# Altium integrated library TI_Logic_Gate.IntLib: 2017 symbols (part 15 of 56)
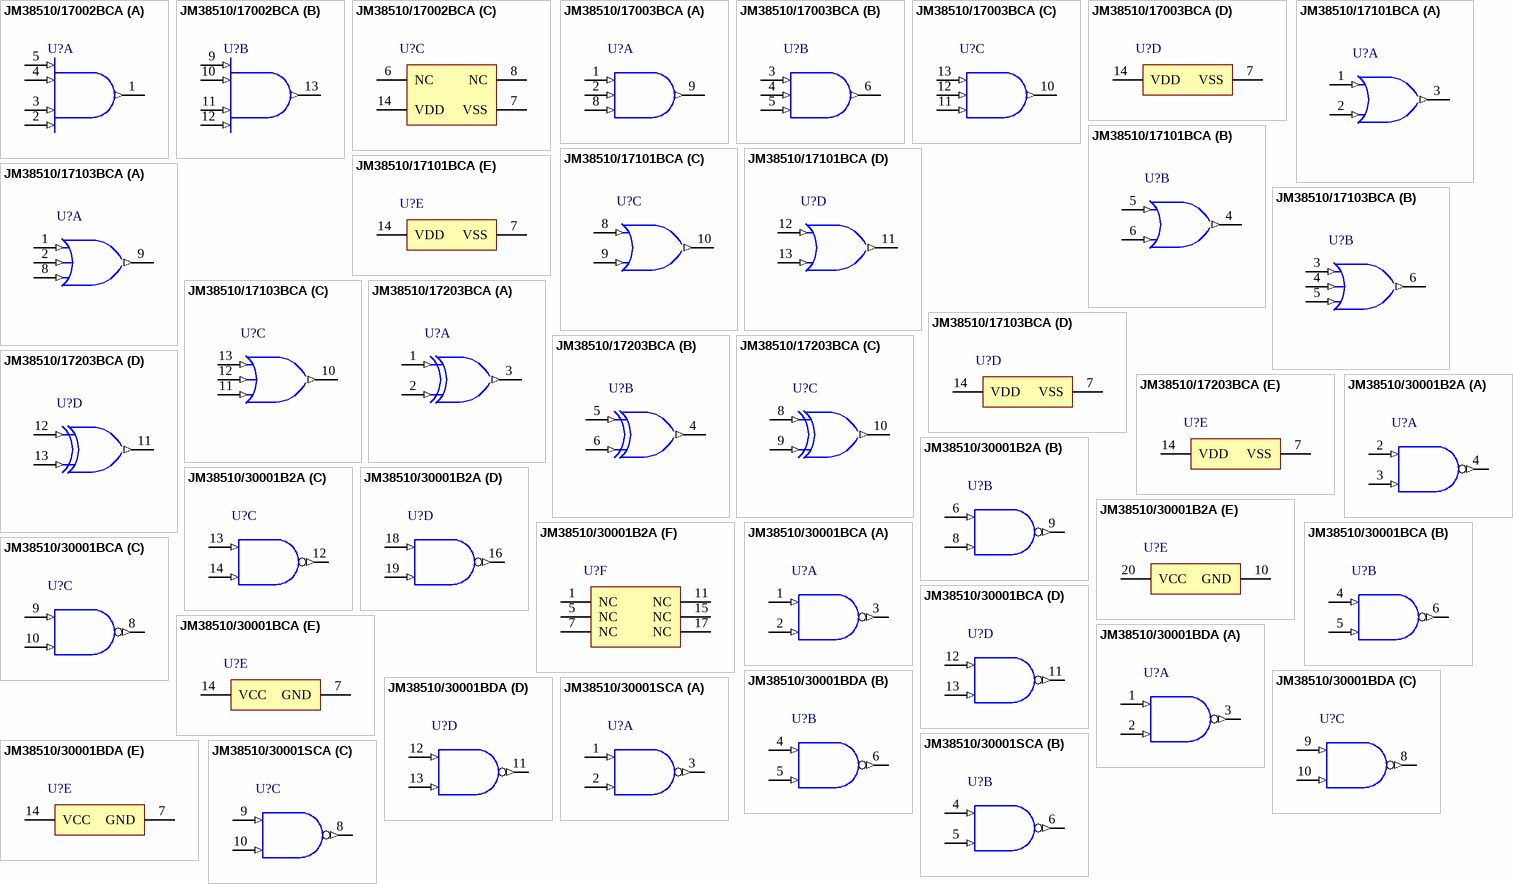
[diagram p239: symbols JM38510/17002BCA to JM38510/30001SCA]

## JM38510/30001BDA
designator U?
Quadruple 2-Input Positive-NAND Gates, W0014A, TUBE; Generic Part Number: SN54LS00; Manufacturer: Texas Instruments; PartNumber: JM38510/30001BDA; VCC(Min)(V): 4.5; VCC(Max)(V): 5.5; Output Type: TTL; Rating: Military; Technology Family: LS; Schmitt Trigger: No; DatasheetVersion: SDLS025B; PackageReference: W0014A; Input Type: TTL; Operating Temperature Range(C): -55 to 125; ComponentLink1Description: Manufacturer URL; ComponentLink1URL: http://www.ti.com/; ComponentLink2Description: Datasheet; ComponentLink2URL: http://www.ti.com/lit/ds/symlink/sn54ls00.pdf; ComponentLink3Description: Package Specification; ComponentLink3URL: http://www.ti.com/lit/ml/mcfp002c/mcfp002c.pdf
footprint W0014A_N (CFP, 14-Leads, Body 9.91x6.6mm, Pitch 1.27mm, IPC Medium Density)
footprint W0014A_M (CFP, 14-Leads, Body 9.91x6.6mm, Pitch 1.27mm, IPC Low Density)
footprint W0014A_L (CFP, 14-Leads, Body 9.91x6.6mm, Pitch 1.27mm, IPC High Density)
part A pins: 1 1A (in) "Gate 1 input", 2 1B (in) "Gate 1 input", 3 1Y (out) "Gate 1 output"
part B pins: 4 2A (in) "Gate 2 input", 5 2B (in) "Gate 2 input", 6 2Y (out) "Gate 2 output"
part C pins: 8 3Y (out) "Gate 3 output", 9 3A (in) "Gate 3 input", 10 3B (in) "Gate 3 input"
part D pins: 11 4Y (out) "Gate 4 output", 12 4A (in) "Gate 4 input", 13 4B (in) "Gate 4 input"
part E pins: 7 GND (power) "Ground Pin", 14 VCC (power) "Power Pin"

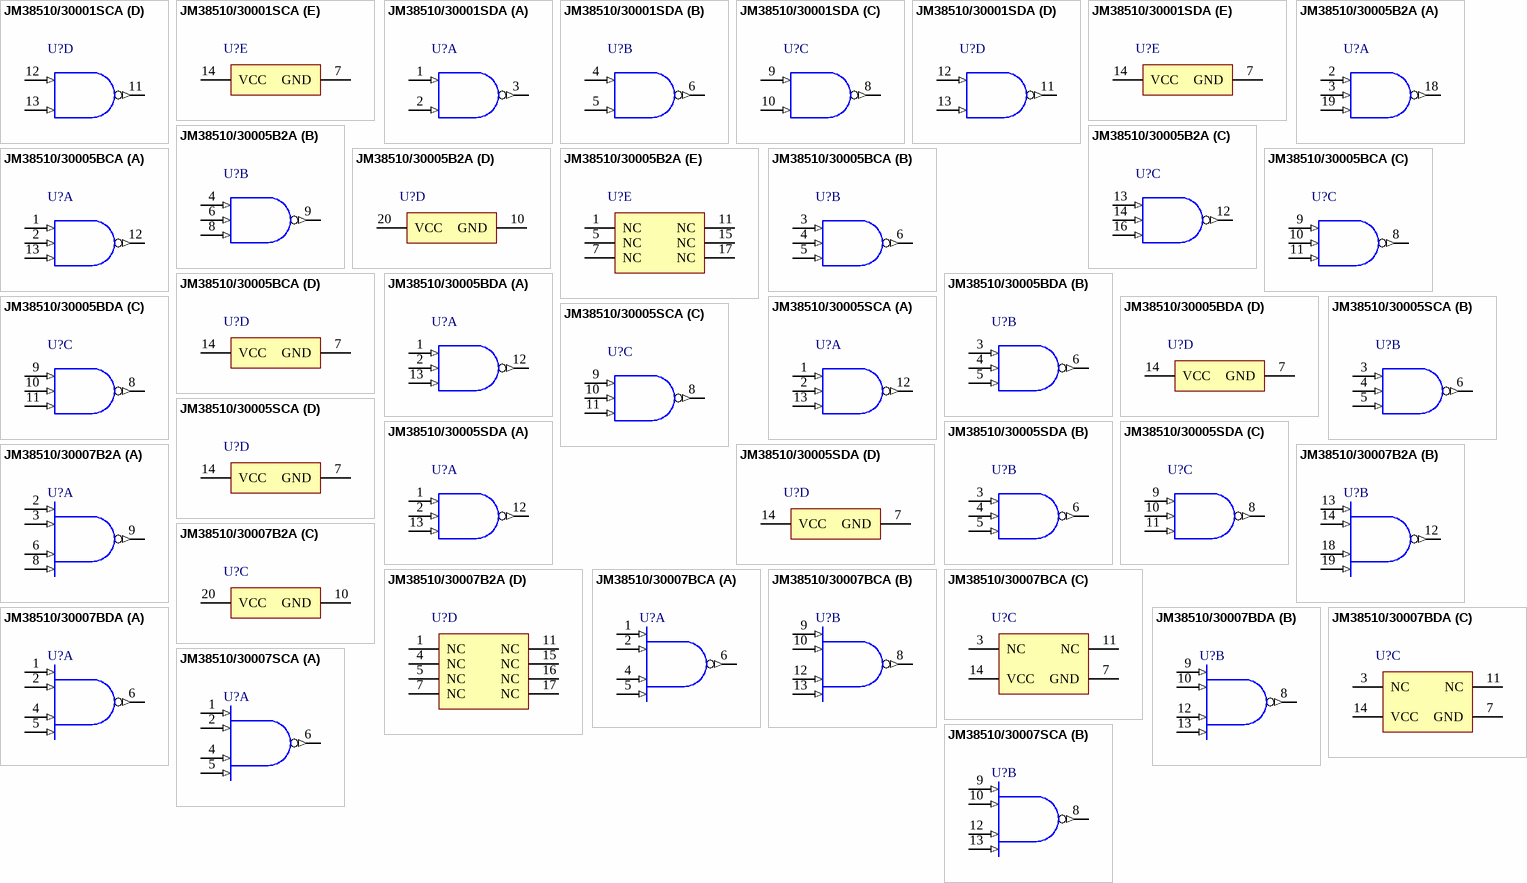
[diagram p55: symbols JM38510/30001SCA to JM38510/30007SCA]

## JM38510/30001SCA
designator U?
Quadruple 2-Input Positive-NAND Gates, J0014A, TUBE; Generic Part Number: SN54LS00-SP; Manufacturer: Texas Instruments; PartNumber: JM38510/30001SCA; VCC(Min)(V): 4.5; VCC(Max)(V): 5.5; Output Type: TTL; Rating: Space; Technology Family: LS; Schmitt Trigger: No; DatasheetVersion: SDLS025B; PackageReference: J0014A; Input Type: TTL; Operating Temperature Range(C): -55 to 125; ComponentLink1Description: Manufacturer URL; ComponentLink1URL: http://www.ti.com/; ComponentLink2Description: Datasheet; ComponentLink2URL: http://www.ti.com/lit/ds/symlink/sn54ls00-sp.pdf; ComponentLink3Description: Package Specification; ComponentLink3URL: http://www.ti.com/lit/ml/mcer002d/mcer002d.pdf
footprint J0014A (DIP, 14-Leads, Body 19.95x7.2mm, Pitch 2.54mm)
part A pins: 1 1A (in) "Gate 1 input", 2 1B (in) "Gate 1 input", 3 1Y (out) "Gate 1 output"
part B pins: 4 2A (in) "Gate 2 input", 5 2B (in) "Gate 2 input", 6 2Y (out) "Gate 2 output"
part C pins: 8 3Y (out) "Gate 3 output", 9 3A (in) "Gate 3 input", 10 3B (in) "Gate 3 input"
part D pins: 11 4Y (out) "Gate 4 output", 12 4A (in) "Gate 4 input", 13 4B (in) "Gate 4 input"
part E pins: 7 GND (power) "Ground Pin", 14 VCC (power) "Power Pin"

## JM38510/30001SDA
designator U?
Quadruple 2-Input Positive-NAND Gates, W0014A, TUBE; Generic Part Number: SN54LS00-SP; Manufacturer: Texas Instruments; PartNumber: JM38510/30001SDA; VCC(Min)(V): 4.5; VCC(Max)(V): 5.5; Output Type: TTL; Rating: Space; Technology Family: LS; Schmitt Trigger: No; DatasheetVersion: SDLS025B; PackageReference: W0014A; Input Type: TTL; Operating Temperature Range(C): -55 to 125; ComponentLink1Description: Manufacturer URL; ComponentLink1URL: http://www.ti.com/; ComponentLink2Description: Datasheet; ComponentLink2URL: http://www.ti.com/lit/ds/symlink/sn54ls00-sp.pdf; ComponentLink3Description: Package Specification; ComponentLink3URL: http://www.ti.com/lit/ml/mcfp002c/mcfp002c.pdf
footprint W0014A_N (CFP, 14-Leads, Body 9.91x6.6mm, Pitch 1.27mm, IPC Medium Density)
footprint W0014A_M (CFP, 14-Leads, Body 9.91x6.6mm, Pitch 1.27mm, IPC Low Density)
footprint W0014A_L (CFP, 14-Leads, Body 9.91x6.6mm, Pitch 1.27mm, IPC High Density)
part A pins: 1 1A (in) "Gate 1 input", 2 1B (in) "Gate 1 input", 3 1Y (out) "Gate 1 output"
part B pins: 4 2A (in) "Gate 2 input", 5 2B (in) "Gate 2 input", 6 2Y (out) "Gate 2 output"
part C pins: 8 3Y (out) "Gate 3 output", 9 3A (in) "Gate 3 input", 10 3B (in) "Gate 3 input"
part D pins: 11 4Y (out) "Gate 4 output", 12 4A (in) "Gate 4 input", 13 4B (in) "Gate 4 input"
part E pins: 7 GND (power) "Ground Pin", 14 VCC (power) "Power Pin"

## JM38510/30005B2A
designator U?
Triple 3-Input Positive-NAND Gates, FK0020A, TUBE; Generic Part Number: SN54LS10; Manufacturer: Texas Instruments; PartNumber: JM38510/30005B2A; VCC(Min)(V): 4.5; VCC(Max)(V): 5.5; Output Type: TTL; Rating: Military; Technology Family: LS; Schmitt Trigger: No; DatasheetVersion: SDLS035A; PackageReference: FK0020A; Input Type: TTL; Operating Temperature Range(C): -55 to 125; Code_JEDEC: MS-004; ComponentLink1Description: Manufacturer URL; ComponentLink1URL: http://www.ti.com/; ComponentLink2Description: Datasheet; ComponentLink2URL: http://www.ti.com/lit/ds/symlink/sn54ls10.pdf; ComponentLink3Description: Package Specification; ComponentLink3URL: http://www.ti.com/lit/ml/mlcc006d/mlcc006d.pdf
footprint FK0020A_N (LCC, 20-Leads, Body 8.9x8.9mm, Pitch 1.27mm, IPC Medium Density)
footprint FK0020A_M (LCC, 20-Leads, Body 8.9x8.9mm, Pitch 1.27mm, IPC Low Density)
footprint FK0020A_L (LCC, 20-Leads, Body 8.9x8.9mm, Pitch 1.27mm, IPC High Density)
part A pins: 2 1A (in), 3 1B (in), 18 1Y (out), 19 1C (in)
part B pins: 4 2A (in), 6 2B (in), 8 2C (in), 9 2Y (out)
part C pins: 12 3Y (out), 13 3A (in), 14 3B (in), 16 3C (in)
part D pins: 10 GND (power), 20 VCC (power)
part E pins: 1 NC, 5 NC, 7 NC, 11 NC, 15 NC, 17 NC

## JM38510/30005BCA
designator U?
Triple 3-Input Positive-NAND Gates, J0014A, TUBE; Generic Part Number: SN54LS10; Manufacturer: Texas Instruments; PartNumber: JM38510/30005BCA; VCC(Min)(V): 4.5; VCC(Max)(V): 5.5; Output Type: TTL; Rating: Military; Technology Family: LS; Schmitt Trigger: No; DatasheetVersion: SDLS035A; PackageReference: J0014A; Input Type: TTL; Operating Temperature Range(C): -55 to 125; ComponentLink1Description: Manufacturer URL; ComponentLink1URL: http://www.ti.com/; ComponentLink2Description: Datasheet; ComponentLink2URL: http://www.ti.com/lit/ds/symlink/sn54ls10.pdf; ComponentLink3Description: Package Specification; ComponentLink3URL: http://www.ti.com/lit/ml/mcer002d/mcer002d.pdf
footprint J0014A (DIP, 14-Leads, Body 19.95x7.2mm, Pitch 2.54mm)
part A pins: 1 1A (in), 2 1B (in), 12 1Y (out), 13 1C (in)
part B pins: 3 2A (in), 4 2B (in), 5 2C (in), 6 2Y (out)
part C pins: 8 3Y (out), 9 3A (in), 10 3B (in), 11 3C (in)
part D pins: 7 GND (power), 14 VCC (power)

## JM38510/30005BDA
designator U?
Triple 3-Input Positive-NAND Gates, W0014A, TUBE; Generic Part Number: SN54LS10; Manufacturer: Texas Instruments; PartNumber: JM38510/30005BDA; VCC(Min)(V): 4.5; VCC(Max)(V): 5.5; Output Type: TTL; Rating: Military; Technology Family: LS; Schmitt Trigger: No; DatasheetVersion: SDLS035A; PackageReference: W0014A; Input Type: TTL; Operating Temperature Range(C): -55 to 125; ComponentLink1Description: Manufacturer URL; ComponentLink1URL: http://www.ti.com/; ComponentLink2Description: Datasheet; ComponentLink2URL: http://www.ti.com/lit/ds/symlink/sn54ls10.pdf; ComponentLink3Description: Package Specification; ComponentLink3URL: http://www.ti.com/lit/ml/mcfp002c/mcfp002c.pdf
footprint W0014A_N (CFP, 14-Leads, Body 9.91x6.6mm, Pitch 1.27mm, IPC Medium Density)
footprint W0014A_M (CFP, 14-Leads, Body 9.91x6.6mm, Pitch 1.27mm, IPC Low Density)
footprint W0014A_L (CFP, 14-Leads, Body 9.91x6.6mm, Pitch 1.27mm, IPC High Density)
part A pins: 1 1A (in), 2 1B (in), 12 1Y (out), 13 1C (in)
part B pins: 3 2A (in), 4 2B (in), 5 2C (in), 6 2Y (out)
part C pins: 8 3Y (out), 9 3A (in), 10 3B (in), 11 3C (in)
part D pins: 7 GND (power), 14 VCC (power)

## JM38510/30005SCA
designator U?
Triple 3-Input Positive-NAND Gates, J0014A, TUBE; Generic Part Number: SN54LS10-SP; Manufacturer: Texas Instruments; PartNumber: JM38510/30005SCA; VCC(Min)(V): 4.5; VCC(Max)(V): 5.5; Output Type: TTL; Rating: Space; Technology Family: LS; Schmitt Trigger: No; DatasheetVersion: SDLS035A; PackageReference: J0014A; Input Type: TTL; Operating Temperature Range(C): -55 to 125; ComponentLink1Description: Manufacturer URL; ComponentLink1URL: http://www.ti.com/; ComponentLink2Description: Datasheet; ComponentLink2URL: http://www.ti.com/lit/ds/symlink/sn54ls10-sp.pdf; ComponentLink3Description: Package Specification; ComponentLink3URL: http://www.ti.com/lit/ml/mcer002d/mcer002d.pdf
footprint J0014A (DIP, 14-Leads, Body 19.95x7.2mm, Pitch 2.54mm)
part A pins: 1 1A (in), 2 1B (in), 12 1Y (out), 13 1C (in)
part B pins: 3 2A (in), 4 2B (in), 5 2C (in), 6 2Y (out)
part C pins: 8 3Y (out), 9 3A (in), 10 3B (in), 11 3C (in)
part D pins: 7 GND (power), 14 VCC (power)

## JM38510/30005SDA
designator U?
Triple 3-Input Positive-NAND Gates, W0014A, TUBE; Generic Part Number: SN54LS10-SP; Manufacturer: Texas Instruments; PartNumber: JM38510/30005SDA; VCC(Min)(V): 4.5; VCC(Max)(V): 5.5; Output Type: TTL; Rating: Space; Technology Family: LS; Schmitt Trigger: No; DatasheetVersion: SDLS035A; PackageReference: W0014A; Input Type: TTL; Operating Temperature Range(C): -55 to 125; ComponentLink1Description: Manufacturer URL; ComponentLink1URL: http://www.ti.com/; ComponentLink2Description: Datasheet; ComponentLink2URL: http://www.ti.com/lit/ds/symlink/sn54ls10-sp.pdf; ComponentLink3Description: Package Specification; ComponentLink3URL: http://www.ti.com/lit/ml/mcfp002c/mcfp002c.pdf
footprint W0014A_N (CFP, 14-Leads, Body 9.91x6.6mm, Pitch 1.27mm, IPC Medium Density)
footprint W0014A_M (CFP, 14-Leads, Body 9.91x6.6mm, Pitch 1.27mm, IPC Low Density)
footprint W0014A_L (CFP, 14-Leads, Body 9.91x6.6mm, Pitch 1.27mm, IPC High Density)
part A pins: 1 1A (in), 2 1B (in), 12 1Y (out), 13 1C (in)
part B pins: 3 2A (in), 4 2B (in), 5 2C (in), 6 2Y (out)
part C pins: 8 3Y (out), 9 3A (in), 10 3B (in), 11 3C (in)
part D pins: 7 GND (power), 14 VCC (power)

## JM38510/30007B2A
designator U?
Dual 4-Input Positive-NAND Gates, FK0020A, TUBE; Generic Part Number: SN54LS20; Manufacturer: Texas Instruments; PartNumber: JM38510/30007B2A; VCC(Min)(V): 4.5; VCC(Max)(V): 5.5; Output Type: TTL; Rating: Military; Technology Family: LS; Schmitt Trigger: No; DatasheetVersion: SDLS079; PackageReference: FK0020A; Input Type: TTL; Operating Temperature Range(C): -55 to 125; Code_JEDEC: MS-004; ComponentLink1Description: Manufacturer URL; ComponentLink1URL: http://www.ti.com/; ComponentLink2Description: Datasheet; ComponentLink2URL: http://www.ti.com/lit/ds/symlink/sn54ls20.pdf; ComponentLink3Description: Package Specification; ComponentLink3URL: http://www.ti.com/lit/ml/mlcc006d/mlcc006d.pdf
footprint FK0020A_N (LCC, 20-Leads, Body 8.9x8.9mm, Pitch 1.27mm, IPC Medium Density)
footprint FK0020A_M (LCC, 20-Leads, Body 8.9x8.9mm, Pitch 1.27mm, IPC Low Density)
footprint FK0020A_L (LCC, 20-Leads, Body 8.9x8.9mm, Pitch 1.27mm, IPC High Density)
part A pins: 2 1A (in), 3 1B (in), 6 1C (in), 8 1D (in), 9 1Y (out)
part B pins: 12 2Y (out), 13 2A (in), 14 2B (in), 18 2C (in), 19 2D (in)
part C pins: 10 GND (power), 20 VCC (power)
part D pins: 1 NC, 4 NC, 5 NC, 7 NC, 11 NC, 15 NC, 16 NC, 17 NC

## JM38510/30007BCA
designator U?
Dual 4-Input Positive-NAND Gates, J0014A, TUBE; Generic Part Number: SN54LS20; Manufacturer: Texas Instruments; PartNumber: JM38510/30007BCA; VCC(Min)(V): 4.5; VCC(Max)(V): 5.5; Output Type: TTL; Rating: Military; Technology Family: LS; Schmitt Trigger: No; DatasheetVersion: SDLS079; PackageReference: J0014A; Input Type: TTL; Operating Temperature Range(C): -55 to 125; ComponentLink1Description: Manufacturer URL; ComponentLink1URL: http://www.ti.com/; ComponentLink2Description: Datasheet; ComponentLink2URL: http://www.ti.com/lit/ds/symlink/sn54ls20.pdf; ComponentLink3Description: Package Specification; ComponentLink3URL: http://www.ti.com/lit/ml/mcer002d/mcer002d.pdf
footprint J0014A (DIP, 14-Leads, Body 19.95x7.2mm, Pitch 2.54mm)
part A pins: 1 1A (in), 2 1B (in), 4 1C (in), 5 1D (in), 6 1Y (out)
part B pins: 8 2Y (out), 9 2A (in), 10 2B (in), 12 2C (in), 13 2D (in)
part C pins: 3 NC, 7 GND (power), 11 NC, 14 VCC (power)

## JM38510/30007BDA
designator U?
Dual 4-Input Positive-NAND Gates, W0014A, TUBE; Generic Part Number: SN54LS20; Manufacturer: Texas Instruments; PartNumber: JM38510/30007BDA; VCC(Min)(V): 4.5; VCC(Max)(V): 5.5; Output Type: TTL; Rating: Military; Technology Family: LS; Schmitt Trigger: No; DatasheetVersion: SDLS079; PackageReference: W0014A; Input Type: TTL; Operating Temperature Range(C): -55 to 125; ComponentLink1Description: Manufacturer URL; ComponentLink1URL: http://www.ti.com/; ComponentLink2Description: Datasheet; ComponentLink2URL: http://www.ti.com/lit/ds/symlink/sn54ls20.pdf; ComponentLink3Description: Package Specification; ComponentLink3URL: http://www.ti.com/lit/ml/mcfp002c/mcfp002c.pdf
footprint W0014A_N (CFP, 14-Leads, Body 9.91x6.6mm, Pitch 1.27mm, IPC Medium Density)
footprint W0014A_M (CFP, 14-Leads, Body 9.91x6.6mm, Pitch 1.27mm, IPC Low Density)
footprint W0014A_L (CFP, 14-Leads, Body 9.91x6.6mm, Pitch 1.27mm, IPC High Density)
part A pins: 1 1A (in), 2 1B (in), 4 1C (in), 5 1D (in), 6 1Y (out)
part B pins: 8 2Y (out), 9 2A (in), 10 2B (in), 12 2C (in), 13 2D (in)
part C pins: 3 NC, 7 GND (power), 11 NC, 14 VCC (power)

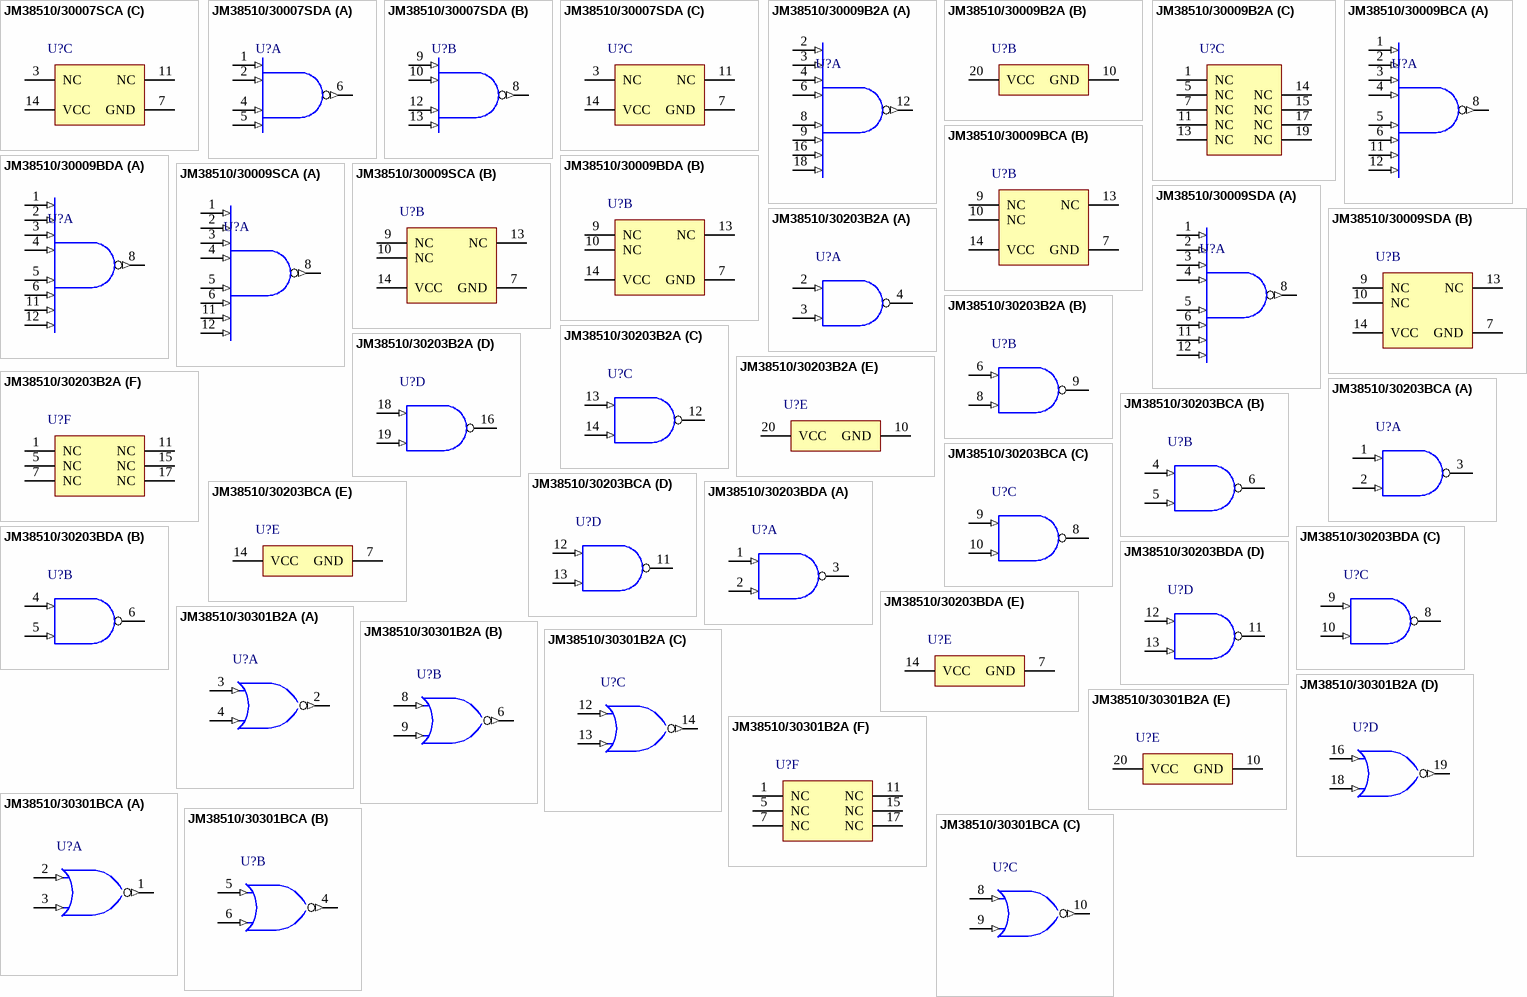
[diagram p56: symbols JM38510/30007SCA to JM38510/30301BCA]

## JM38510/30007SCA
designator U?
Dual 4-Input Positive-NAND Gates, J0014A, TUBE; Generic Part Number: SN54LS20-SP; Manufacturer: Texas Instruments; PartNumber: JM38510/30007SCA; VCC(Min)(V): 4.5; VCC(Max)(V): 5.5; Output Type: TTL; Rating: Space; Technology Family: LS; Schmitt Trigger: No; DatasheetVersion: SDLS079; PackageReference: J0014A; Input Type: TTL; Operating Temperature Range(C): -55 to 125; ComponentLink1Description: Manufacturer URL; ComponentLink1URL: http://www.ti.com/; ComponentLink2Description: Datasheet; ComponentLink2URL: http://www.ti.com/lit/ds/symlink/sn54ls20-sp.pdf; ComponentLink3Description: Package Specification; ComponentLink3URL: http://www.ti.com/lit/ml/mcer002d/mcer002d.pdf
footprint J0014A (DIP, 14-Leads, Body 19.95x7.2mm, Pitch 2.54mm)
part A pins: 1 1A (in), 2 1B (in), 4 1C (in), 5 1D (in), 6 1Y (out)
part B pins: 8 2Y (out), 9 2A (in), 10 2B (in), 12 2C (in), 13 2D (in)
part C pins: 3 NC, 7 GND (power), 11 NC, 14 VCC (power)

## JM38510/30007SDA
designator U?
Dual 4-Input Positive-NAND Gates, W0014A, TUBE; Generic Part Number: SN54LS20-SP; Manufacturer: Texas Instruments; PartNumber: JM38510/30007SDA; VCC(Min)(V): 4.5; VCC(Max)(V): 5.5; Output Type: TTL; Rating: Space; Technology Family: LS; Schmitt Trigger: No; DatasheetVersion: SDLS079; PackageReference: W0014A; Input Type: TTL; Operating Temperature Range(C): -55 to 125; ComponentLink1Description: Manufacturer URL; ComponentLink1URL: http://www.ti.com/; ComponentLink2Description: Datasheet; ComponentLink2URL: http://www.ti.com/lit/ds/symlink/sn54ls20-sp.pdf; ComponentLink3Description: Package Specification; ComponentLink3URL: http://www.ti.com/lit/ml/mcfp002c/mcfp002c.pdf
footprint W0014A_N (CFP, 14-Leads, Body 9.91x6.6mm, Pitch 1.27mm, IPC Medium Density)
footprint W0014A_M (CFP, 14-Leads, Body 9.91x6.6mm, Pitch 1.27mm, IPC Low Density)
footprint W0014A_L (CFP, 14-Leads, Body 9.91x6.6mm, Pitch 1.27mm, IPC High Density)
part A pins: 1 1A (in), 2 1B (in), 4 1C (in), 5 1D (in), 6 1Y (out)
part B pins: 8 2Y (out), 9 2A (in), 10 2B (in), 12 2C (in), 13 2D (in)
part C pins: 3 NC, 7 GND (power), 11 NC, 14 VCC (power)

## JM38510/30009B2A
designator U?
8-Input Positive-NAND Gates, FK0020A, TUBE; Generic Part Number: SN54LS30; Manufacturer: Texas Instruments; PartNumber: JM38510/30009B2A; VCC(Min)(V): 4.5; VCC(Max)(V): 5.5; Output Type: TTL; Rating: Military; Technology Family: LS; Schmitt Trigger: No; DatasheetVersion: SDLS099; PackageReference: FK0020A; Input Type: TTL; Operating Temperature Range(C): -55 to 125; Code_JEDEC: MS-004; ComponentLink1Description: Manufacturer URL; ComponentLink1URL: http://www.ti.com/; ComponentLink2Description: Datasheet; ComponentLink2URL: http://www.ti.com/lit/ds/symlink/sn54ls30.pdf; ComponentLink3Description: Package Specification; ComponentLink3URL: http://www.ti.com/lit/ml/mlcc006d/mlcc006d.pdf
footprint FK0020A_N (LCC, 20-Leads, Body 8.9x8.9mm, Pitch 1.27mm, IPC Medium Density)
footprint FK0020A_M (LCC, 20-Leads, Body 8.9x8.9mm, Pitch 1.27mm, IPC Low Density)
footprint FK0020A_L (LCC, 20-Leads, Body 8.9x8.9mm, Pitch 1.27mm, IPC High Density)
part A pins: 2 A (in), 3 B (in), 4 C (in), 6 D (in), 8 E (in), 9 F (in), 12 Y (out), 16 G (in), 18 H (in)
part B pins: 10 GND (power), 20 VCC (power)
part C pins: 1 NC, 5 NC, 7 NC, 11 NC, 13 NC, 14 NC, 15 NC, 17 NC, 19 NC

## JM38510/30009BCA
designator U?
8-Input Positive-NAND Gates, J0014A, TUBE; Generic Part Number: SN54LS30; Manufacturer: Texas Instruments; PartNumber: JM38510/30009BCA; VCC(Min)(V): 4.5; VCC(Max)(V): 5.5; Output Type: TTL; Rating: Military; Technology Family: LS; Schmitt Trigger: No; DatasheetVersion: SDLS099; PackageReference: J0014A; Input Type: TTL; Operating Temperature Range(C): -55 to 125; ComponentLink1Description: Manufacturer URL; ComponentLink1URL: http://www.ti.com/; ComponentLink2Description: Datasheet; ComponentLink2URL: http://www.ti.com/lit/ds/symlink/sn54ls30.pdf; ComponentLink3Description: Package Specification; ComponentLink3URL: http://www.ti.com/lit/ml/mcer002d/mcer002d.pdf
footprint J0014A (DIP, 14-Leads, Body 19.95x7.2mm, Pitch 2.54mm)
part A pins: 1 A (in), 2 B (in), 3 C (in), 4 D (in), 5 E (in), 6 F (in), 8 ~{Y} (out), 11 G (in), 12 H (in)
part B pins: 7 GND (power), 9 NC, 10 NC, 13 NC, 14 VCC (power)

## JM38510/30009BDA
designator U?
8-Input Positive-NAND Gates, W0014A, TUBE; Generic Part Number: SN54LS30; Manufacturer: Texas Instruments; PartNumber: JM38510/30009BDA; VCC(Min)(V): 4.5; VCC(Max)(V): 5.5; Output Type: TTL; Rating: Military; Technology Family: LS; Schmitt Trigger: No; DatasheetVersion: SDLS099; PackageReference: W0014A; Input Type: TTL; Operating Temperature Range(C): -55 to 125; ComponentLink1Description: Manufacturer URL; ComponentLink1URL: http://www.ti.com/; ComponentLink2Description: Datasheet; ComponentLink2URL: http://www.ti.com/lit/ds/symlink/sn54ls30.pdf; ComponentLink3Description: Package Specification; ComponentLink3URL: http://www.ti.com/lit/ml/mcfp002c/mcfp002c.pdf
footprint W0014A_N (CFP, 14-Leads, Body 9.91x6.6mm, Pitch 1.27mm, IPC Medium Density)
footprint W0014A_M (CFP, 14-Leads, Body 9.91x6.6mm, Pitch 1.27mm, IPC Low Density)
footprint W0014A_L (CFP, 14-Leads, Body 9.91x6.6mm, Pitch 1.27mm, IPC High Density)
part A pins: 1 A (in), 2 B (in), 3 C (in), 4 D (in), 5 E (in), 6 F (in), 8 ~{Y} (out), 11 G (in), 12 H (in)
part B pins: 7 GND (power), 9 NC, 10 NC, 13 NC, 14 VCC (power)

## JM38510/30009SCA
designator U?
8-Input Positive-NAND Gates, J0014A, TUBE; Generic Part Number: SN54LS30-SP; Manufacturer: Texas Instruments; PartNumber: JM38510/30009SCA; VCC(Min)(V): 4.5; VCC(Max)(V): 5.5; Output Type: TTL; Rating: Space; Technology Family: LS; Schmitt Trigger: No; DatasheetVersion: SDLS099; PackageReference: J0014A; Input Type: TTL; Operating Temperature Range(C): -55 to 125; ComponentLink1Description: Manufacturer URL; ComponentLink1URL: http://www.ti.com/; ComponentLink2Description: Datasheet; ComponentLink2URL: http://www.ti.com/lit/ds/symlink/sn54ls30-sp.pdf; ComponentLink3Description: Package Specification; ComponentLink3URL: http://www.ti.com/lit/ml/mcer002d/mcer002d.pdf
footprint J0014A (DIP, 14-Leads, Body 19.95x7.2mm, Pitch 2.54mm)
part A pins: 1 A (in), 2 B (in), 3 C (in), 4 D (in), 5 E (in), 6 F (in), 8 ~{Y} (out), 11 G (in), 12 H (in)
part B pins: 7 GND (power), 9 NC, 10 NC, 13 NC, 14 VCC (power)

## JM38510/30009SDA
designator U?
8-Input Positive-NAND Gates, W0014A, TUBE; Generic Part Number: SN54LS30-SP; Manufacturer: Texas Instruments; PartNumber: JM38510/30009SDA; VCC(Min)(V): 4.5; VCC(Max)(V): 5.5; Output Type: TTL; Rating: Space; Technology Family: LS; Schmitt Trigger: No; DatasheetVersion: SDLS099; PackageReference: W0014A; Input Type: TTL; Operating Temperature Range(C): -55 to 125; ComponentLink1Description: Manufacturer URL; ComponentLink1URL: http://www.ti.com/; ComponentLink2Description: Datasheet; ComponentLink2URL: http://www.ti.com/lit/ds/symlink/sn54ls30-sp.pdf; ComponentLink3Description: Package Specification; ComponentLink3URL: http://www.ti.com/lit/ml/mcfp002c/mcfp002c.pdf
footprint W0014A_N (CFP, 14-Leads, Body 9.91x6.6mm, Pitch 1.27mm, IPC Medium Density)
footprint W0014A_M (CFP, 14-Leads, Body 9.91x6.6mm, Pitch 1.27mm, IPC Low Density)
footprint W0014A_L (CFP, 14-Leads, Body 9.91x6.6mm, Pitch 1.27mm, IPC High Density)
part A pins: 1 A (in), 2 B (in), 3 C (in), 4 D (in), 5 E (in), 6 F (in), 8 ~{Y} (out), 11 G (in), 12 H (in)
part B pins: 7 GND (power), 9 NC, 10 NC, 13 NC, 14 VCC (power)

## JM38510/30203B2A
designator U?
Quadruple 2-Input Positive-NAND Buffers With Open-Collector Outp, FK0020A, TUBE; Generic Part Number: SN54LS38; Manufacturer: Texas Instruments; PartNumber: JM38510/30203B2A; VCC(Min)(V): 4.5; VCC(Max)(V): 5.5; Output Type: TTL; Rating: Military; Technology Family: LS; Schmitt Trigger: No; DatasheetVersion: SDLS105; PackageReference: FK0020A; Input Type: TTL; Operating Temperature Range(C): -55 to 125; Code_JEDEC: MS-004; ComponentLink1Description: Manufacturer URL; ComponentLink1URL: http://www.ti.com/; ComponentLink2Description: Datasheet; ComponentLink2URL: http://www.ti.com/lit/ds/symlink/sn54ls38.pdf; ComponentLink3Description: Package Specification; ComponentLink3URL: http://www.ti.com/lit/ml/mlcc006d/mlcc006d.pdf
footprint FK0020A_N (LCC, 20-Leads, Body 8.9x8.9mm, Pitch 1.27mm, IPC Medium Density)
footprint FK0020A_M (LCC, 20-Leads, Body 8.9x8.9mm, Pitch 1.27mm, IPC Low Density)
footprint FK0020A_L (LCC, 20-Leads, Body 8.9x8.9mm, Pitch 1.27mm, IPC High Density)
part A pins: 2 1A (in), 3 1B (in), 4 1Y (oc)
part B pins: 6 2A (in), 8 2B (in), 9 2Y (oc)
part C pins: 12 3Y (oc), 13 3A (in), 14 3B (in)
part D pins: 16 4Y (oc), 18 4A (in), 19 4B (in)
part E pins: 10 GND (power), 20 VCC (power)
part F pins: 1 NC, 5 NC, 7 NC, 11 NC, 15 NC, 17 NC

## JM38510/30203BCA
designator U?
Quadruple 2-Input Positive-NAND Buffers With Open-Collector Outp, J0014A, TUBE; Generic Part Number: SN54LS38; Manufacturer: Texas Instruments; PartNumber: JM38510/30203BCA; VCC(Min)(V): 4.5; VCC(Max)(V): 5.5; Output Type: TTL; Rating: Military; Technology Family: LS; Schmitt Trigger: No; DatasheetVersion: SDLS105; PackageReference: J0014A; Input Type: TTL; Operating Temperature Range(C): -55 to 125; ComponentLink1Description: Manufacturer URL; ComponentLink1URL: http://www.ti.com/; ComponentLink2Description: Datasheet; ComponentLink2URL: http://www.ti.com/lit/ds/symlink/sn54ls38.pdf; ComponentLink3Description: Package Specification; ComponentLink3URL: http://www.ti.com/lit/ml/mcer002d/mcer002d.pdf
footprint J0014A (DIP, 14-Leads, Body 19.95x7.2mm, Pitch 2.54mm)
part A pins: 1 1A (in), 2 1B (in), 3 1Y (oc)
part B pins: 4 2A (in), 5 2B (in), 6 2Y (oc)
part C pins: 8 3Y (oc), 9 3A (in), 10 3B (in)
part D pins: 11 4Y (oc), 12 4A (in), 13 4B (in)
part E pins: 7 GND (power), 14 VCC (power)

## JM38510/30203BDA
designator U?
Quadruple 2-Input Positive-NAND Buffers With Open-Collector Outp, W0014A, TUBE; Generic Part Number: SN54LS38; Manufacturer: Texas Instruments; PartNumber: JM38510/30203BDA; VCC(Min)(V): 4.5; VCC(Max)(V): 5.5; Output Type: TTL; Rating: Military; Technology Family: LS; Schmitt Trigger: No; DatasheetVersion: SDLS105; PackageReference: W0014A; Input Type: TTL; Operating Temperature Range(C): -55 to 125; ComponentLink1Description: Manufacturer URL; ComponentLink1URL: http://www.ti.com/; ComponentLink2Description: Datasheet; ComponentLink2URL: http://www.ti.com/lit/ds/symlink/sn54ls38.pdf; ComponentLink3Description: Package Specification; ComponentLink3URL: http://www.ti.com/lit/ml/mcfp002c/mcfp002c.pdf
footprint W0014A_N (CFP, 14-Leads, Body 9.91x6.6mm, Pitch 1.27mm, IPC Medium Density)
footprint W0014A_M (CFP, 14-Leads, Body 9.91x6.6mm, Pitch 1.27mm, IPC Low Density)
footprint W0014A_L (CFP, 14-Leads, Body 9.91x6.6mm, Pitch 1.27mm, IPC High Density)
part A pins: 1 1A (in), 2 1B (in), 3 1Y (oc)
part B pins: 4 2A (in), 5 2B (in), 6 2Y (oc)
part C pins: 8 3Y (oc), 9 3A (in), 10 3B (in)
part D pins: 11 4Y (oc), 12 4A (in), 13 4B (in)
part E pins: 7 GND (power), 14 VCC (power)

## JM38510/30301B2A
designator U?
Quadruple 2-Input Positive-NOR Gates, FK0020A, TUBE; Generic Part Number: SN54LS02; Manufacturer: Texas Instruments; PartNumber: JM38510/30301B2A; VCC(Min)(V): 4.5; VCC(Max)(V): 5.5; Output Type: TTL; Bits(#): 4; Rating: Military; tpd @ Nom Voltage(Max)(ns): 15; DatasheetVersion: SDLS027; PackageReference: FK0020A; Input Type: TTL; Operating Temperature Range(C): -55 to 125; Code_JEDEC: MS-004; ComponentLink1Description: Manufacturer URL; ComponentLink1URL: http://www.ti.com/; ComponentLink2Description: Datasheet; ComponentLink2URL: http://www.ti.com/lit/ds/symlink/sn54ls02.pdf; ComponentLink3Description: Package Specification; ComponentLink3URL: http://www.ti.com/lit/ml/mlcc006d/mlcc006d.pdf
footprint FK0020A_N (LCC, 20-Leads, Body 8.9x8.9mm, Pitch 1.27mm, IPC Medium Density)
footprint FK0020A_M (LCC, 20-Leads, Body 8.9x8.9mm, Pitch 1.27mm, IPC Low Density)
footprint FK0020A_L (LCC, 20-Leads, Body 8.9x8.9mm, Pitch 1.27mm, IPC High Density)
part A pins: 2 1Y (out), 3 1A (in), 4 1B (in)
part B pins: 6 2Y (out), 8 2A (in), 9 2B (in)
part C pins: 12 3A (in), 13 3B (in), 14 3Y (out)
part D pins: 16 4A (in), 18 4B (in), 19 4Y (out)
part E pins: 10 GND (power), 20 VCC (power)
part F pins: 1 NC, 5 NC, 7 NC, 11 NC, 15 NC, 17 NC

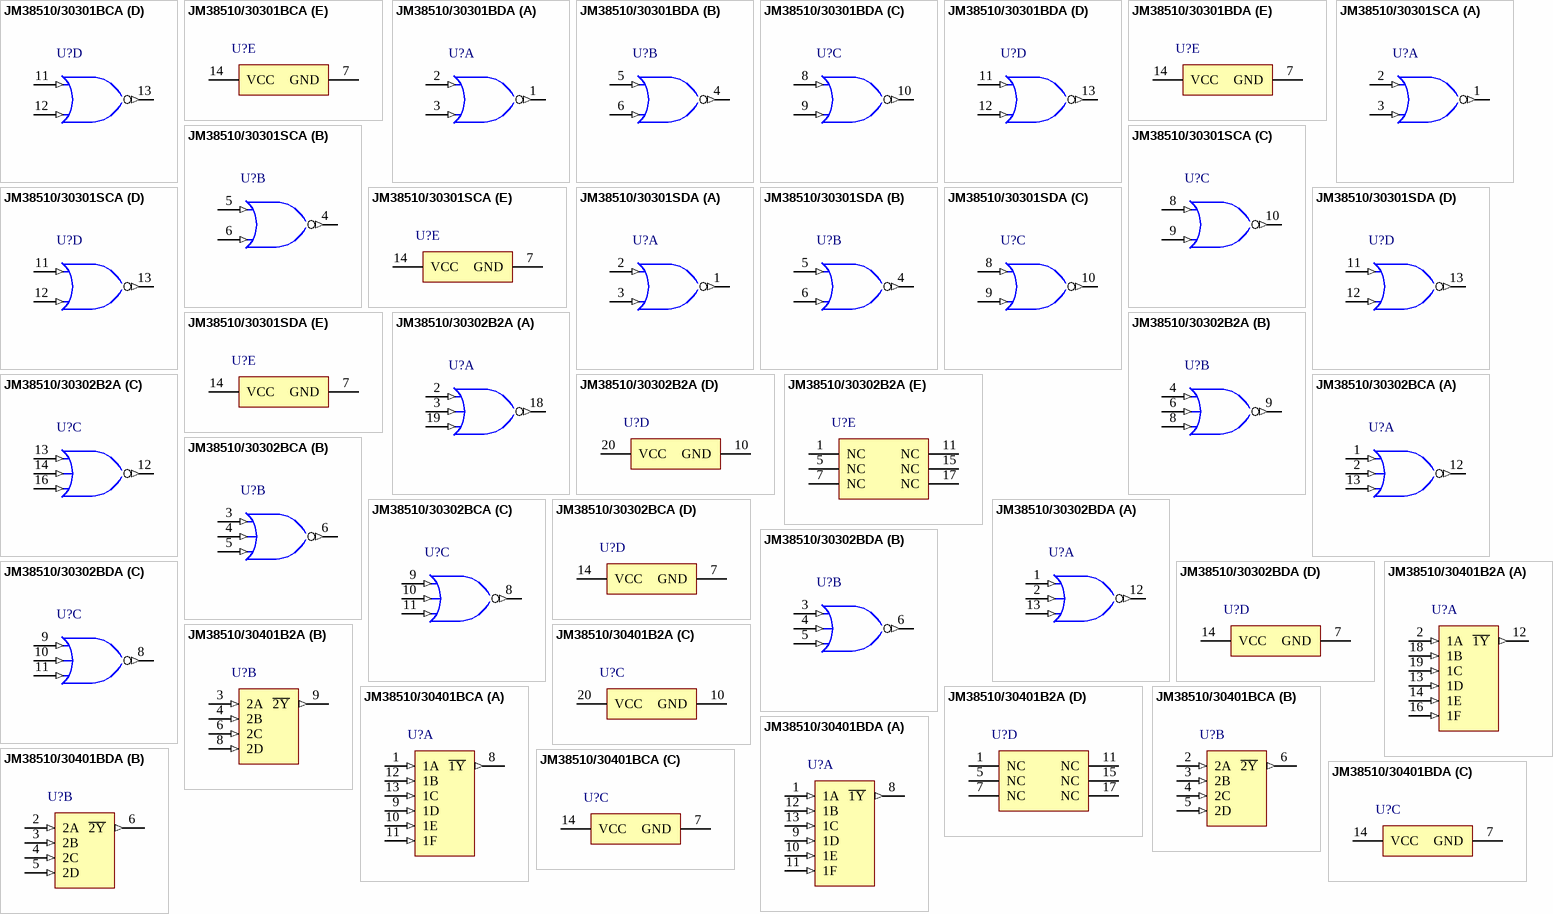
[diagram p57: symbols JM38510/30301BCA to JM38510/30401BDA]

## JM38510/30301BCA
designator U?
Quadruple 2-Input Positive-NOR Gates, J0014A, TUBE; Generic Part Number: SN54LS02; Manufacturer: Texas Instruments; PartNumber: JM38510/30301BCA; VCC(Min)(V): 4.5; VCC(Max)(V): 5.5; Output Type: TTL; Bits(#): 4; Rating: Military; tpd @ Nom Voltage(Max)(ns): 15; DatasheetVersion: SDLS027; PackageReference: J0014A; Input Type: TTL; Operating Temperature Range(C): -55 to 125; ComponentLink1Description: Manufacturer URL; ComponentLink1URL: http://www.ti.com/; ComponentLink2Description: Datasheet; ComponentLink2URL: http://www.ti.com/lit/ds/symlink/sn54ls02.pdf; ComponentLink3Description: Package Specification; ComponentLink3URL: http://www.ti.com/lit/ml/mcer002d/mcer002d.pdf
footprint J0014A (DIP, 14-Leads, Body 19.95x7.2mm, Pitch 2.54mm)
part A pins: 1 1Y (out) "1Y output", 2 1A (in) "1A input", 3 1B (in) "1B input"
part B pins: 4 2Y (out) "2Y output", 5 2A (in) "2A input", 6 2B (in) "2B input"
part C pins: 8 3A (in) "3A input", 9 3B (in) "3B input", 10 3Y (out) "3Y output"
part D pins: 11 4A (in) "4A input", 12 4B (in) "4B input", 13 4Y (out) "4Y output"
part E pins: 7 GND (power), 14 VCC (power)

## JM38510/30301BDA
designator U?
Quadruple 2-Input Positive-NOR Gates, W0014A, TUBE; Generic Part Number: SN54LS02; Manufacturer: Texas Instruments; PartNumber: JM38510/30301BDA; VCC(Min)(V): 4.5; VCC(Max)(V): 5.5; Output Type: TTL; Bits(#): 4; Rating: Military; tpd @ Nom Voltage(Max)(ns): 15; DatasheetVersion: SDLS027; PackageReference: W0014A; Input Type: TTL; Operating Temperature Range(C): -55 to 125; ComponentLink1Description: Manufacturer URL; ComponentLink1URL: http://www.ti.com/; ComponentLink2Description: Datasheet; ComponentLink2URL: http://www.ti.com/lit/ds/symlink/sn54ls02.pdf; ComponentLink3Description: Package Specification; ComponentLink3URL: http://www.ti.com/lit/ml/mcfp002c/mcfp002c.pdf
footprint W0014A_N (CFP, 14-Leads, Body 9.91x6.6mm, Pitch 1.27mm, IPC Medium Density)
footprint W0014A_M (CFP, 14-Leads, Body 9.91x6.6mm, Pitch 1.27mm, IPC Low Density)
footprint W0014A_L (CFP, 14-Leads, Body 9.91x6.6mm, Pitch 1.27mm, IPC High Density)
part A pins: 1 1Y (out) "1Y output", 2 1A (in) "1A input", 3 1B (in) "1B input"
part B pins: 4 2Y (out) "2Y output", 5 2A (in) "2A input", 6 2B (in) "2B input"
part C pins: 8 3A (in) "3A input", 9 3B (in) "3B input", 10 3Y (out) "3Y output"
part D pins: 11 4A (in) "4A input", 12 4B (in) "4B input", 13 4Y (out) "4Y output"
part E pins: 7 GND (power), 14 VCC (power)

## JM38510/30301SCA
designator U?
Quadruple 2-Input Positive-NOR Gates, J0014A, TUBE; Generic Part Number: SN54LS02-SP; Manufacturer: Texas Instruments; PartNumber: JM38510/30301SCA; VCC(Min)(V): 4.5; VCC(Max)(V): 5.5; Output Type: TTL; Bits(#): 4; Rating: Space; tpd @ Nom Voltage(Max)(ns): 15; DatasheetVersion: SDLS027; PackageReference: J0014A; Input Type: TTL; Operating Temperature Range(C): -55 to 125; ComponentLink1Description: Manufacturer URL; ComponentLink1URL: http://www.ti.com/; ComponentLink2Description: Datasheet; ComponentLink2URL: http://www.ti.com/lit/ds/symlink/sn54ls02-sp.pdf; ComponentLink3Description: Package Specification; ComponentLink3URL: http://www.ti.com/lit/ml/mcer002d/mcer002d.pdf
footprint J0014A (DIP, 14-Leads, Body 19.95x7.2mm, Pitch 2.54mm)
part A pins: 1 1Y (out) "1Y output", 2 1A (in) "1A input", 3 1B (in) "1B input"
part B pins: 4 2Y (out) "2Y output", 5 2A (in) "2A input", 6 2B (in) "2B input"
part C pins: 8 3A (in) "3A input", 9 3B (in) "3B input", 10 3Y (out) "3Y output"
part D pins: 11 4A (in) "4A input", 12 4B (in) "4B input", 13 4Y (out) "4Y output"
part E pins: 7 GND (power), 14 VCC (power)

## JM38510/30301SDA
designator U?
Quadruple 2-Input Positive-NOR Gates, W0014A, TUBE; Generic Part Number: SN54LS02-SP; Manufacturer: Texas Instruments; PartNumber: JM38510/30301SDA; VCC(Min)(V): 4.5; VCC(Max)(V): 5.5; Output Type: TTL; Bits(#): 4; Rating: Space; tpd @ Nom Voltage(Max)(ns): 15; DatasheetVersion: SDLS027; PackageReference: W0014A; Input Type: TTL; Operating Temperature Range(C): -55 to 125; ComponentLink1Description: Manufacturer URL; ComponentLink1URL: http://www.ti.com/; ComponentLink2Description: Datasheet; ComponentLink2URL: http://www.ti.com/lit/ds/symlink/sn54ls02-sp.pdf; ComponentLink3Description: Package Specification; ComponentLink3URL: http://www.ti.com/lit/ml/mcfp002c/mcfp002c.pdf
footprint W0014A_N (CFP, 14-Leads, Body 9.91x6.6mm, Pitch 1.27mm, IPC Medium Density)
footprint W0014A_M (CFP, 14-Leads, Body 9.91x6.6mm, Pitch 1.27mm, IPC Low Density)
footprint W0014A_L (CFP, 14-Leads, Body 9.91x6.6mm, Pitch 1.27mm, IPC High Density)
part A pins: 1 1Y (out) "1Y output", 2 1A (in) "1A input", 3 1B (in) "1B input"
part B pins: 4 2Y (out) "2Y output", 5 2A (in) "2A input", 6 2B (in) "2B input"
part C pins: 8 3A (in) "3A input", 9 3B (in) "3B input", 10 3Y (out) "3Y output"
part D pins: 11 4A (in) "4A input", 12 4B (in) "4B input", 13 4Y (out) "4Y output"
part E pins: 7 GND (power), 14 VCC (power)

## JM38510/30302B2A
designator U?
Triple 3-Input Positive-NOR Gates, FK0020A, TUBE; Generic Part Number: SN54LS27; Manufacturer: Texas Instruments; PartNumber: JM38510/30302B2A; VCC(Min)(V): 4.5; VCC(Max)(V): 5.5; Output Type: TTL; Bits(#): 3; Rating: Military; tpd @ Nom Voltage(Max)(ns): 15; DatasheetVersion: SDLS089; PackageReference: FK0020A; Input Type: TTL; Operating Temperature Range(C): -55 to 125; Code_JEDEC: MS-004; ComponentLink1Description: Manufacturer URL; ComponentLink1URL: http://www.ti.com/; ComponentLink2Description: Datasheet; ComponentLink2URL: http://www.ti.com/lit/ds/symlink/sn54ls27.pdf; ComponentLink3Description: Package Specification; ComponentLink3URL: http://www.ti.com/lit/ml/mlcc006d/mlcc006d.pdf
footprint FK0020A_N (LCC, 20-Leads, Body 8.9x8.9mm, Pitch 1.27mm, IPC Medium Density)
footprint FK0020A_M (LCC, 20-Leads, Body 8.9x8.9mm, Pitch 1.27mm, IPC Low Density)
footprint FK0020A_L (LCC, 20-Leads, Body 8.9x8.9mm, Pitch 1.27mm, IPC High Density)
part A pins: 2 1A (in), 3 1B (in), 18 1Y (out), 19 1C (in)
part B pins: 4 2A (in), 6 2B (in), 8 2C (in), 9 2Y (out)
part C pins: 12 3Y (out), 13 3A (in), 14 3B (in), 16 3C (in)
part D pins: 10 GND (power), 20 VCC (power)
part E pins: 1 NC, 5 NC, 7 NC, 11 NC, 15 NC, 17 NC

## JM38510/30302BCA
designator U?
Triple 3-Input Positive-NOR Gates, J0014A, TUBE; Generic Part Number: SN54LS27; Manufacturer: Texas Instruments; PartNumber: JM38510/30302BCA; VCC(Min)(V): 4.5; VCC(Max)(V): 5.5; Output Type: TTL; Bits(#): 3; Rating: Military; tpd @ Nom Voltage(Max)(ns): 15; DatasheetVersion: SDLS089; PackageReference: J0014A; Input Type: TTL; Operating Temperature Range(C): -55 to 125; ComponentLink1Description: Manufacturer URL; ComponentLink1URL: http://www.ti.com/; ComponentLink2Description: Datasheet; ComponentLink2URL: http://www.ti.com/lit/ds/symlink/sn54ls27.pdf; ComponentLink3Description: Package Specification; ComponentLink3URL: http://www.ti.com/lit/ml/mcer002d/mcer002d.pdf
footprint J0014A (DIP, 14-Leads, Body 19.95x7.2mm, Pitch 2.54mm)
part A pins: 1 1A (in), 2 1B (in), 12 1Y (out), 13 1C (in)
part B pins: 3 2A (in), 4 2B (in), 5 2C (in), 6 2Y (out)
part C pins: 8 3Y (out), 9 3A (in), 10 3B (in), 11 3C (in)
part D pins: 7 GND (power), 14 VCC (power)

## JM38510/30302BDA
designator U?
Triple 3-Input Positive-NOR Gates, W0014A, TUBE; Generic Part Number: SN54LS27; Manufacturer: Texas Instruments; PartNumber: JM38510/30302BDA; VCC(Min)(V): 4.5; VCC(Max)(V): 5.5; Output Type: TTL; Bits(#): 3; Rating: Military; tpd @ Nom Voltage(Max)(ns): 15; DatasheetVersion: SDLS089; PackageReference: W0014A; Input Type: TTL; Operating Temperature Range(C): -55 to 125; ComponentLink1Description: Manufacturer URL; ComponentLink1URL: http://www.ti.com/; ComponentLink2Description: Datasheet; ComponentLink2URL: http://www.ti.com/lit/ds/symlink/sn54ls27.pdf; ComponentLink3Description: Package Specification; ComponentLink3URL: http://www.ti.com/lit/ml/mcfp002c/mcfp002c.pdf
footprint W0014A_N (CFP, 14-Leads, Body 9.91x6.6mm, Pitch 1.27mm, IPC Medium Density)
footprint W0014A_M (CFP, 14-Leads, Body 9.91x6.6mm, Pitch 1.27mm, IPC Low Density)
footprint W0014A_L (CFP, 14-Leads, Body 9.91x6.6mm, Pitch 1.27mm, IPC High Density)
part A pins: 1 1A (in), 2 1B (in), 12 1Y (out), 13 1C (in)
part B pins: 3 2A (in), 4 2B (in), 5 2C (in), 6 2Y (out)
part C pins: 8 3Y (out), 9 3A (in), 10 3B (in), 11 3C (in)
part D pins: 7 GND (power), 14 VCC (power)

## JM38510/30401B2A
designator U?
AND-OR-invert Gates, FK0020A, TUBE; Generic Part Number: SN54LS51; Manufacturer: Texas Instruments; PartNumber: JM38510/30401B2A; VCC(Min)(V): 4.5; VCC(Max)(V): 5.5; Output Type: TTL; ICC @ Nom Voltage(Max)(mA): 0.014; Bits(#): 2; F @ Nom Voltage(Max)(Mhz): 35; Rating: Military; Technology Family: LS; Schmitt Trigger: No; Output Drive (IOL/IOH)(Max)(mA): -0.4/16; tpd @ Nom Voltage(Max)(ns): 20; DatasheetVersion: SDLS113; PackageReference: FK0020A; Input Type: TTL; Operating Temperature Range(C): -55 to 125; Code_JEDEC: MS-004; ComponentLink1Description: Manufacturer URL; ComponentLink1URL: http://www.ti.com/; ComponentLink2Description: Datasheet; ComponentLink2URL: http://www.ti.com/lit/ds/symlink/sn54ls51.pdf; ComponentLink3Description: Package Specification; ComponentLink3URL: http://www.ti.com/lit/ml/mlcc006d/mlcc006d.pdf
footprint FK0020A_N (LCC, 20-Leads, Body 8.9x8.9mm, Pitch 1.27mm, IPC Medium Density)
footprint FK0020A_M (LCC, 20-Leads, Body 8.9x8.9mm, Pitch 1.27mm, IPC Low Density)
footprint FK0020A_L (LCC, 20-Leads, Body 8.9x8.9mm, Pitch 1.27mm, IPC High Density)
part A pins: 2 1A (in), 12 ~{1Y} (out), 13 1D (in), 14 1E (in), 16 1F (in), 18 1B (in), 19 1C (in)
part B pins: 3 2A (in), 4 2B (in), 6 2C (in), 8 2D (in), 9 ~{2Y} (out)
part C pins: 10 GND (power), 20 VCC (power)
part D pins: 1 NC, 5 NC, 7 NC, 11 NC, 15 NC, 17 NC

## JM38510/30401BCA
designator U?
AND-OR-invert Gates, J0014A, TUBE; Generic Part Number: SN54LS51; Manufacturer: Texas Instruments; PartNumber: JM38510/30401BCA; VCC(Min)(V): 4.5; VCC(Max)(V): 5.5; Output Type: TTL; ICC @ Nom Voltage(Max)(mA): 0.014; Bits(#): 2; F @ Nom Voltage(Max)(Mhz): 35; Rating: Military; Technology Family: LS; Schmitt Trigger: No; Output Drive (IOL/IOH)(Max)(mA): -0.4/16; tpd @ Nom Voltage(Max)(ns): 20; DatasheetVersion: SDLS113; PackageReference: J0014A; Input Type: TTL; Operating Temperature Range(C): -55 to 125; ComponentLink1Description: Manufacturer URL; ComponentLink1URL: http://www.ti.com/; ComponentLink2Description: Datasheet; ComponentLink2URL: http://www.ti.com/lit/ds/symlink/sn54ls51.pdf; ComponentLink3Description: Package Specification; ComponentLink3URL: http://www.ti.com/lit/ml/mcer002d/mcer002d.pdf
footprint J0014A (DIP, 14-Leads, Body 19.95x7.2mm, Pitch 2.54mm)
part A pins: 1 1A (in), 8 ~{1Y} (out), 9 1D (in), 10 1E (in), 11 1F (in), 12 1B (in), 13 1C (in)
part B pins: 2 2A (in), 3 2B (in), 4 2C (in), 5 2D (in), 6 ~{2Y} (out)
part C pins: 7 GND (power), 14 VCC (power)

## JM38510/30401BDA
designator U?
AND-OR-invert Gates, W0014A, TUBE; Generic Part Number: SN54LS51; Manufacturer: Texas Instruments; PartNumber: JM38510/30401BDA; VCC(Min)(V): 4.5; VCC(Max)(V): 5.5; Output Type: TTL; ICC @ Nom Voltage(Max)(mA): 0.014; Bits(#): 2; F @ Nom Voltage(Max)(Mhz): 35; Rating: Military; Technology Family: LS; Schmitt Trigger: No; Output Drive (IOL/IOH)(Max)(mA): -0.4/16; tpd @ Nom Voltage(Max)(ns): 20; DatasheetVersion: SDLS113; PackageReference: W0014A; Input Type: TTL; Operating Temperature Range(C): -55 to 125; ComponentLink1Description: Manufacturer URL; ComponentLink1URL: http://www.ti.com/; ComponentLink2Description: Datasheet; ComponentLink2URL: http://www.ti.com/lit/ds/symlink/sn54ls51.pdf; ComponentLink3Description: Package Specification; ComponentLink3URL: http://www.ti.com/lit/ml/mcfp002c/mcfp002c.pdf
footprint W0014A_N (CFP, 14-Leads, Body 9.91x6.6mm, Pitch 1.27mm, IPC Medium Density)
footprint W0014A_M (CFP, 14-Leads, Body 9.91x6.6mm, Pitch 1.27mm, IPC Low Density)
footprint W0014A_L (CFP, 14-Leads, Body 9.91x6.6mm, Pitch 1.27mm, IPC High Density)
part A pins: 1 1A (in), 8 ~{1Y} (out), 9 1D (in), 10 1E (in), 11 1F (in), 12 1B (in), 13 1C (in)
part B pins: 2 2A (in), 3 2B (in), 4 2C (in), 5 2D (in), 6 ~{2Y} (out)
part C pins: 7 GND (power), 14 VCC (power)

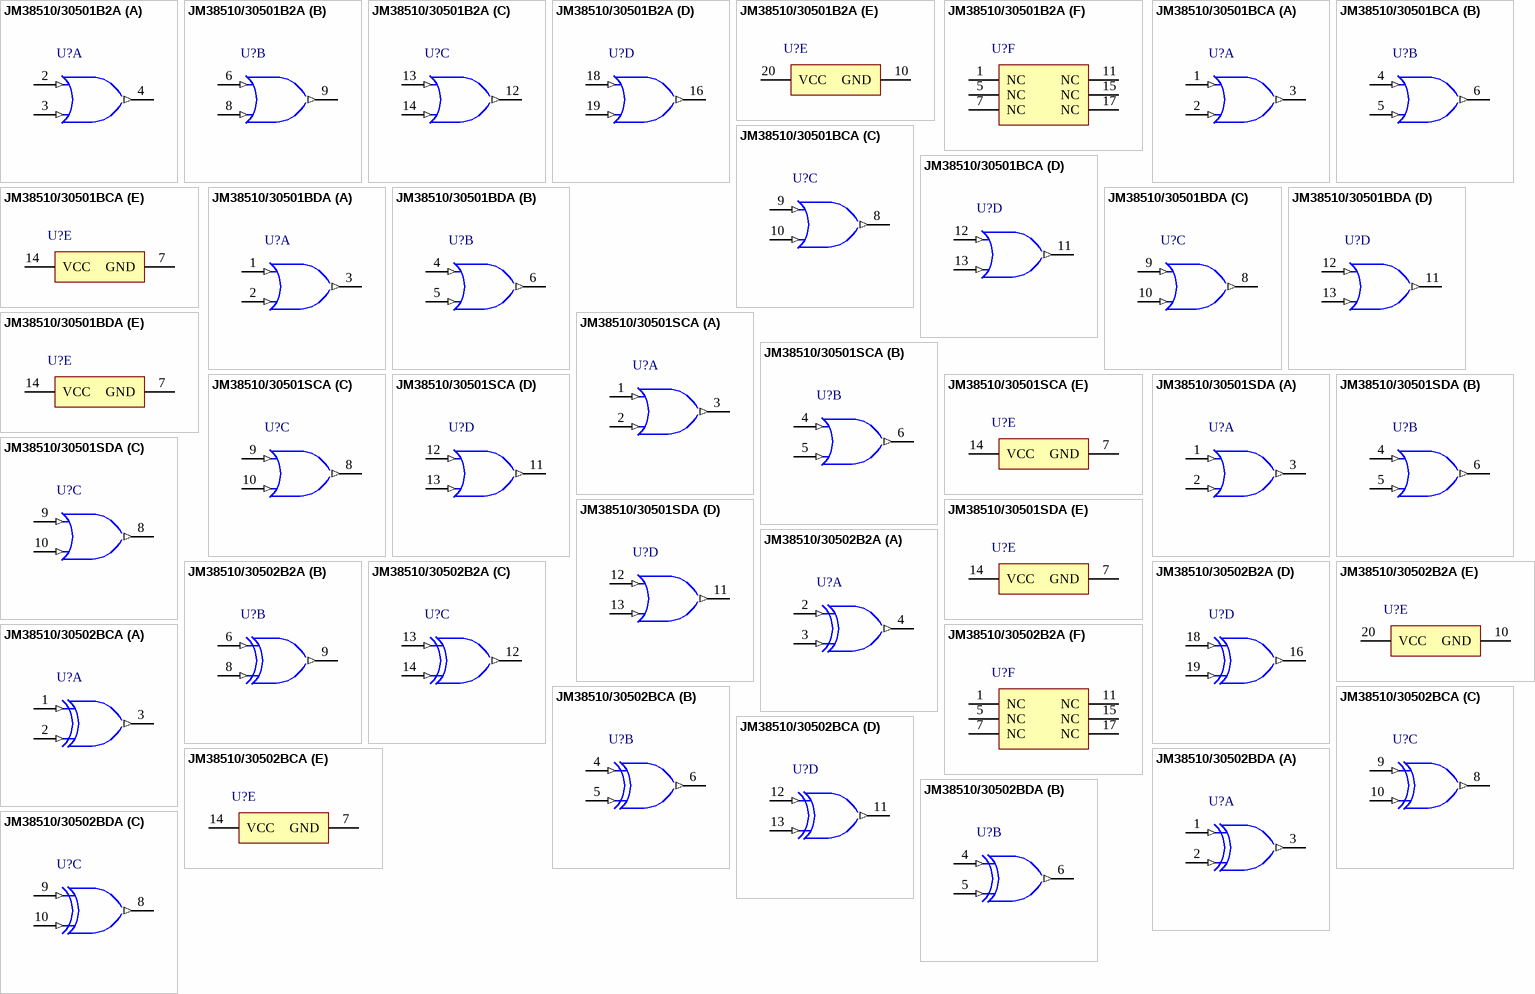
[diagram p58: symbols JM38510/30501B2A to JM38510/30502BDA]

## JM38510/30501B2A
designator U?
Quadruple 2-Input Positive-OR Gates, FK0020A, TUBE; Generic Part Number: SN54LS32; Manufacturer: Texas Instruments; PartNumber: JM38510/30501B2A; VCC(Min)(V): 4.5; VCC(Max)(V): 5.5; Output Type: TTL; Bits(#): 4; Rating: Military; tpd @ Nom Voltage(Max)(ns): 22; DatasheetVersion: SDLS100; PackageReference: FK0020A; Input Type: TTL; Operating Temperature Range(C): -55 to 125; Code_JEDEC: MS-004; ComponentLink1Description: Manufacturer URL; ComponentLink1URL: http://www.ti.com/; ComponentLink2Description: Datasheet; ComponentLink2URL: http://www.ti.com/lit/ds/symlink/sn54ls32.pdf; ComponentLink3Description: Package Specification; ComponentLink3URL: http://www.ti.com/lit/ml/mlcc006d/mlcc006d.pdf
footprint FK0020A_N (LCC, 20-Leads, Body 8.9x8.9mm, Pitch 1.27mm, IPC Medium Density)
footprint FK0020A_M (LCC, 20-Leads, Body 8.9x8.9mm, Pitch 1.27mm, IPC Low Density)
footprint FK0020A_L (LCC, 20-Leads, Body 8.9x8.9mm, Pitch 1.27mm, IPC High Density)
part A pins: 2 1A (in), 3 1B (in), 4 1Y (out)
part B pins: 6 2A (in), 8 2B (in), 9 2Y (out)
part C pins: 12 3Y (out), 13 3A (in), 14 3B (in)
part D pins: 16 4Y (out), 18 4A (in), 19 4B (in)
part E pins: 10 GND (power), 20 VCC (power)
part F pins: 1 NC, 5 NC, 7 NC, 11 NC, 15 NC, 17 NC

## JM38510/30501BCA
designator U?
Quadruple 2-Input Positive-OR Gates, J0014A, TUBE; Generic Part Number: SN54LS32; Manufacturer: Texas Instruments; PartNumber: JM38510/30501BCA; VCC(Min)(V): 4.5; VCC(Max)(V): 5.5; Output Type: TTL; Bits(#): 4; Rating: Military; tpd @ Nom Voltage(Max)(ns): 22; DatasheetVersion: SDLS100; PackageReference: J0014A; Input Type: TTL; Operating Temperature Range(C): -55 to 125; ComponentLink1Description: Manufacturer URL; ComponentLink1URL: http://www.ti.com/; ComponentLink2Description: Datasheet; ComponentLink2URL: http://www.ti.com/lit/ds/symlink/sn54ls32.pdf; ComponentLink3Description: Package Specification; ComponentLink3URL: http://www.ti.com/lit/ml/mcer002d/mcer002d.pdf
footprint J0014A (DIP, 14-Leads, Body 19.95x7.2mm, Pitch 2.54mm)
part A pins: 1 1A (in), 2 1B (in), 3 1Y (out)
part B pins: 4 2A (in), 5 2B (in), 6 2Y (out)
part C pins: 8 3Y (out), 9 3A (in), 10 3B (in)
part D pins: 11 4Y (out), 12 4A (in), 13 4B (in)
part E pins: 7 GND (power), 14 VCC (power)

## JM38510/30501BDA
designator U?
Quadruple 2-Input Positive-OR Gates, W0014A, TUBE; Generic Part Number: SN54LS32; Manufacturer: Texas Instruments; PartNumber: JM38510/30501BDA; VCC(Min)(V): 4.5; VCC(Max)(V): 5.5; Output Type: TTL; Bits(#): 4; Rating: Military; tpd @ Nom Voltage(Max)(ns): 22; DatasheetVersion: SDLS100; PackageReference: W0014A; Input Type: TTL; Operating Temperature Range(C): -55 to 125; ComponentLink1Description: Manufacturer URL; ComponentLink1URL: http://www.ti.com/; ComponentLink2Description: Datasheet; ComponentLink2URL: http://www.ti.com/lit/ds/symlink/sn54ls32.pdf; ComponentLink3Description: Package Specification; ComponentLink3URL: http://www.ti.com/lit/ml/mcfp002c/mcfp002c.pdf
footprint W0014A_N (CFP, 14-Leads, Body 9.91x6.6mm, Pitch 1.27mm, IPC Medium Density)
footprint W0014A_M (CFP, 14-Leads, Body 9.91x6.6mm, Pitch 1.27mm, IPC Low Density)
footprint W0014A_L (CFP, 14-Leads, Body 9.91x6.6mm, Pitch 1.27mm, IPC High Density)
part A pins: 1 1A (in), 2 1B (in), 3 1Y (out)
part B pins: 4 2A (in), 5 2B (in), 6 2Y (out)
part C pins: 8 3Y (out), 9 3A (in), 10 3B (in)
part D pins: 11 4Y (out), 12 4A (in), 13 4B (in)
part E pins: 7 GND (power), 14 VCC (power)

## JM38510/30501SCA
designator U?
Quadruple 2-Input Positive-OR Gates, J0014A, TUBE; Generic Part Number: SN54LS32-SP; Manufacturer: Texas Instruments; PartNumber: JM38510/30501SCA; VCC(Min)(V): 4.5; VCC(Max)(V): 5.5; Output Type: TTL; Bits(#): 4; Rating: Space; tpd @ Nom Voltage(Max)(ns): 22; DatasheetVersion: SDLS100; PackageReference: J0014A; Input Type: TTL; Operating Temperature Range(C): -55 to 125; ComponentLink1Description: Manufacturer URL; ComponentLink1URL: http://www.ti.com/; ComponentLink2Description: Datasheet; ComponentLink2URL: http://www.ti.com/lit/ds/symlink/sn54ls32-sp.pdf; ComponentLink3Description: Package Specification; ComponentLink3URL: http://www.ti.com/lit/ml/mcer002d/mcer002d.pdf
footprint J0014A (DIP, 14-Leads, Body 19.95x7.2mm, Pitch 2.54mm)
part A pins: 1 1A (in), 2 1B (in), 3 1Y (out)
part B pins: 4 2A (in), 5 2B (in), 6 2Y (out)
part C pins: 8 3Y (out), 9 3A (in), 10 3B (in)
part D pins: 11 4Y (out), 12 4A (in), 13 4B (in)
part E pins: 7 GND (power), 14 VCC (power)

## JM38510/30501SDA
designator U?
Quadruple 2-Input Positive-OR Gates, W0014A, TUBE; Generic Part Number: SN54LS32-SP; Manufacturer: Texas Instruments; PartNumber: JM38510/30501SDA; VCC(Min)(V): 4.5; VCC(Max)(V): 5.5; Output Type: TTL; Bits(#): 4; Rating: Space; tpd @ Nom Voltage(Max)(ns): 22; DatasheetVersion: SDLS100; PackageReference: W0014A; Input Type: TTL; Operating Temperature Range(C): -55 to 125; ComponentLink1Description: Manufacturer URL; ComponentLink1URL: http://www.ti.com/; ComponentLink2Description: Datasheet; ComponentLink2URL: http://www.ti.com/lit/ds/symlink/sn54ls32-sp.pdf; ComponentLink3Description: Package Specification; ComponentLink3URL: http://www.ti.com/lit/ml/mcfp002c/mcfp002c.pdf
footprint W0014A_N (CFP, 14-Leads, Body 9.91x6.6mm, Pitch 1.27mm, IPC Medium Density)
footprint W0014A_M (CFP, 14-Leads, Body 9.91x6.6mm, Pitch 1.27mm, IPC Low Density)
footprint W0014A_L (CFP, 14-Leads, Body 9.91x6.6mm, Pitch 1.27mm, IPC High Density)
part A pins: 1 1A (in), 2 1B (in), 3 1Y (out)
part B pins: 4 2A (in), 5 2B (in), 6 2Y (out)
part C pins: 8 3Y (out), 9 3A (in), 10 3B (in)
part D pins: 11 4Y (out), 12 4A (in), 13 4B (in)
part E pins: 7 GND (power), 14 VCC (power)

## JM38510/30502B2A
designator U?
Quadruple 2-Input Exclusive-OR Gates, FK0020A, TUBE; Generic Part Number: SN54LS86A; Manufacturer: Texas Instruments; PartNumber: JM38510/30502B2A; VCC(Min)(V): 4.5; VCC(Max)(V): 5.5; Output Type: TTL; Rating: Military; Technology Family: LS; Schmitt Trigger: No; DatasheetVersion: SDLS124; PackageReference: FK0020A; Input Type: TTL; Operating Temperature Range(C): -55 to 125; Code_JEDEC: MS-004; ComponentLink1Description: Manufacturer URL; ComponentLink1URL: http://www.ti.com/; ComponentLink2Description: Datasheet; ComponentLink2URL: http://www.ti.com/lit/ds/symlink/sn54ls86a.pdf; ComponentLink3Description: Package Specification; ComponentLink3URL: http://www.ti.com/lit/ml/mlcc006d/mlcc006d.pdf
footprint FK0020A_N (LCC, 20-Leads, Body 8.9x8.9mm, Pitch 1.27mm, IPC Medium Density)
footprint FK0020A_M (LCC, 20-Leads, Body 8.9x8.9mm, Pitch 1.27mm, IPC Low Density)
footprint FK0020A_L (LCC, 20-Leads, Body 8.9x8.9mm, Pitch 1.27mm, IPC High Density)
part A pins: 2 1A (in), 3 1B (in), 4 1Y (out)
part B pins: 6 2A (in), 8 2B (in), 9 2Y (out)
part C pins: 12 3Y (out), 13 3A (in), 14 3B (in)
part D pins: 16 4Y (out), 18 4A (in), 19 4B (in)
part E pins: 10 GND (power), 20 VCC (power)
part F pins: 1 NC, 5 NC, 7 NC, 11 NC, 15 NC, 17 NC

## JM38510/30502BCA
designator U?
Quadruple 2-Input Exclusive-OR Gates, J0014A, TUBE; Generic Part Number: SN54LS86A; Manufacturer: Texas Instruments; PartNumber: JM38510/30502BCA; VCC(Min)(V): 4.5; VCC(Max)(V): 5.5; Output Type: TTL; Rating: Military; Technology Family: LS; Schmitt Trigger: No; DatasheetVersion: SDLS124; PackageReference: J0014A; Input Type: TTL; Operating Temperature Range(C): -55 to 125; ComponentLink1Description: Manufacturer URL; ComponentLink1URL: http://www.ti.com/; ComponentLink2Description: Datasheet; ComponentLink2URL: http://www.ti.com/lit/ds/symlink/sn54ls86a.pdf
footprint J0014A (DIP, 14-Leads, Body 19.95x7.2mm, Pitch 2.54mm)
part A pins: 1 1A (in), 2 1B (in), 3 1Y (out)
part B pins: 4 2A (in), 5 2B (in), 6 2Y (out)
part C pins: 8 3Y (out), 9 3A (in), 10 3B (in)
part D pins: 11 4Y (out), 12 4A (in), 13 4B (in)
part E pins: 7 GND (power), 14 VCC (power)

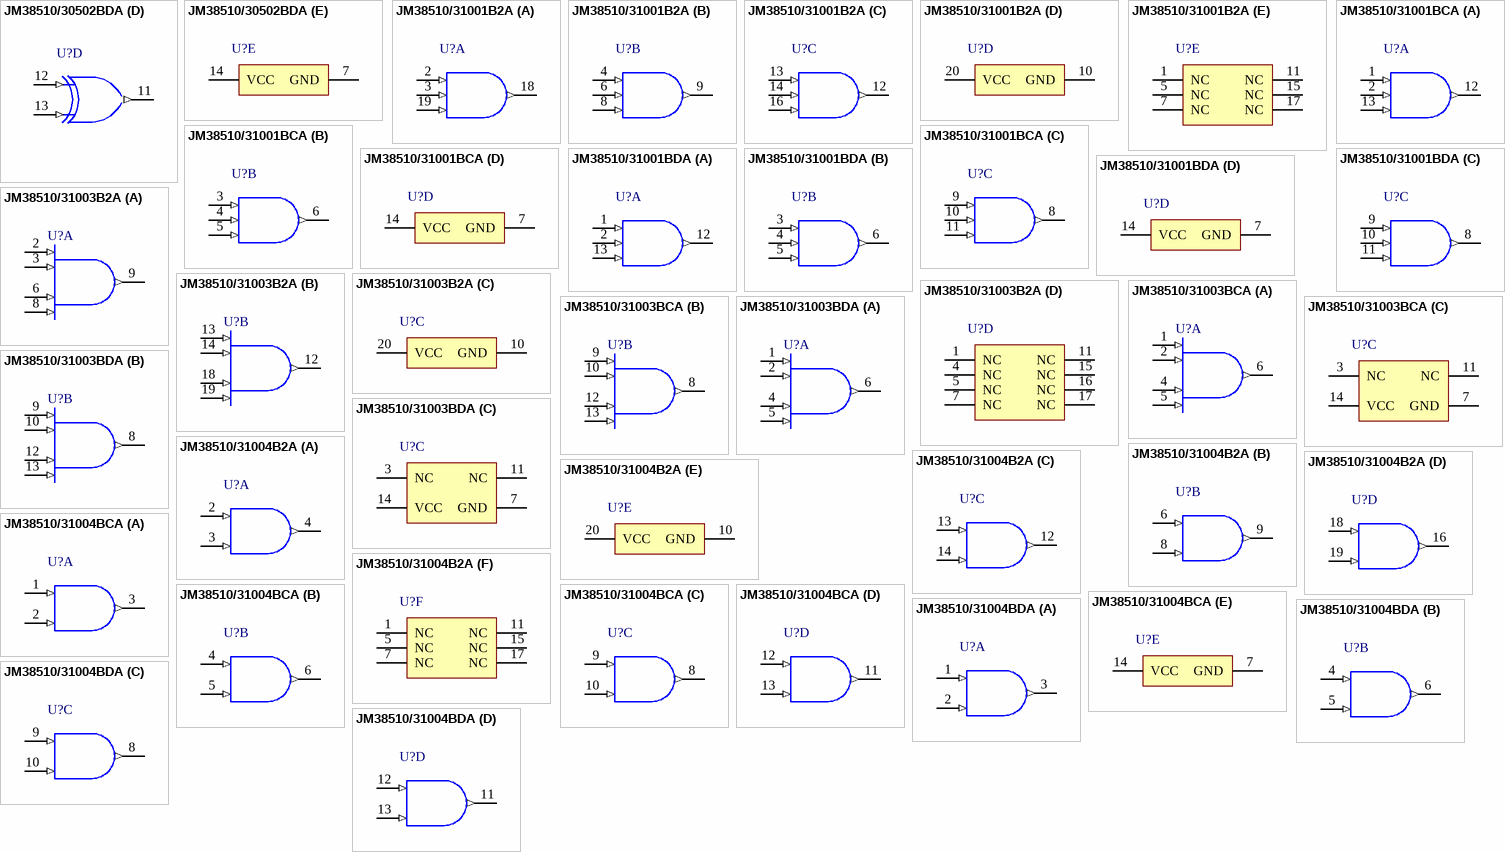
[diagram p59: symbols JM38510/30502BDA to JM38510/31004BDA]

## JM38510/30502BDA
designator U?
Quadruple 2-Input Exclusive-OR Gates, W0014A, TUBE; Generic Part Number: SN54LS86A; Manufacturer: Texas Instruments; PartNumber: JM38510/30502BDA; VCC(Min)(V): 4.5; VCC(Max)(V): 5.5; Output Type: TTL; Rating: Military; Technology Family: LS; Schmitt Trigger: No; DatasheetVersion: SDLS124; PackageReference: W0014A; Input Type: TTL; Operating Temperature Range(C): -55 to 125; ComponentLink1Description: Manufacturer URL; ComponentLink1URL: http://www.ti.com/; ComponentLink2Description: Datasheet; ComponentLink2URL: http://www.ti.com/lit/ds/symlink/sn54ls86a.pdf
footprint W0014A_N (CFP, 14-Leads, Body 9.91x6.6mm, Pitch 1.27mm, IPC Medium Density)
footprint W0014A_M (CFP, 14-Leads, Body 9.91x6.6mm, Pitch 1.27mm, IPC Low Density)
footprint W0014A_L (CFP, 14-Leads, Body 9.91x6.6mm, Pitch 1.27mm, IPC High Density)
part A pins: 1 1A (in), 2 1B (in), 3 1Y (out)
part B pins: 4 2A (in), 5 2B (in), 6 2Y (out)
part C pins: 8 3Y (out), 9 3A (in), 10 3B (in)
part D pins: 11 4Y (out), 12 4A (in), 13 4B (in)
part E pins: 7 GND (power), 14 VCC (power)

## JM38510/31001B2A
designator U?
Triple 3-Input Positive-AND Gates, FK0020A, TUBE; Generic Part Number: SN54LS11; Manufacturer: Texas Instruments; PartNumber: JM38510/31001B2A; VCC(Min)(V): 4.5; VCC(Max)(V): 5.5; Output Type: TTL; Rating: Military; Technology Family: LS; Schmitt Trigger: No; Output Drive (IOL/IOH)(Max)(mA): - /4; tpd @ Nom Voltage(Max)(ns): 20; DatasheetVersion: SDLS131; PackageReference: FK0020A; Input Type: TTL; Operating Temperature Range(C): -55 to 125; Code_JEDEC: MS-004; ComponentLink1Description: Manufacturer URL; ComponentLink1URL: http://www.ti.com/; ComponentLink2Description: Datasheet; ComponentLink2URL: http://www.ti.com/lit/ds/symlink/sn54ls11.pdf; ComponentLink3Description: Package Specification; ComponentLink3URL: http://www.ti.com/lit/ml/mlcc006d/mlcc006d.pdf
footprint FK0020A_N (LCC, 20-Leads, Body 8.9x8.9mm, Pitch 1.27mm, IPC Medium Density)
footprint FK0020A_M (LCC, 20-Leads, Body 8.9x8.9mm, Pitch 1.27mm, IPC Low Density)
footprint FK0020A_L (LCC, 20-Leads, Body 8.9x8.9mm, Pitch 1.27mm, IPC High Density)
part A pins: 2 1A (in), 3 1B (in), 18 1Y (out), 19 1C (in)
part B pins: 4 2A (in), 6 2B (in), 8 2C (in), 9 2Y (out)
part C pins: 12 3Y (out), 13 3A (in), 14 3B (in), 16 3C (in)
part D pins: 10 GND (power), 20 VCC (power)
part E pins: 1 NC, 5 NC, 7 NC, 11 NC, 15 NC, 17 NC

## JM38510/31001BCA
designator U?
Triple 3-Input Positive-AND Gates, J0014A, TUBE; Generic Part Number: SN54LS11; Manufacturer: Texas Instruments; PartNumber: JM38510/31001BCA; VCC(Min)(V): 4.5; VCC(Max)(V): 5.5; Output Type: TTL; Rating: Military; Technology Family: LS; Schmitt Trigger: No; Output Drive (IOL/IOH)(Max)(mA): - /4; tpd @ Nom Voltage(Max)(ns): 20; DatasheetVersion: SDLS131; PackageReference: J0014A; Input Type: TTL; Operating Temperature Range(C): -55 to 125; ComponentLink1Description: Manufacturer URL; ComponentLink1URL: http://www.ti.com/; ComponentLink2Description: Datasheet; ComponentLink2URL: http://www.ti.com/lit/ds/symlink/sn54ls11.pdf
footprint J0014A (DIP, 14-Leads, Body 19.95x7.2mm, Pitch 2.54mm)
part A pins: 1 1A (in), 2 1B (in), 12 1Y (out), 13 1C (in)
part B pins: 3 2A (in), 4 2B (in), 5 2C (in), 6 2Y (out)
part C pins: 8 3Y (out), 9 3A (in), 10 3B (in), 11 3C (in)
part D pins: 7 GND (power), 14 VCC (power)